# EAGLE library part ESP32DEVKITV1 (library ESP32-DEVKITV1)
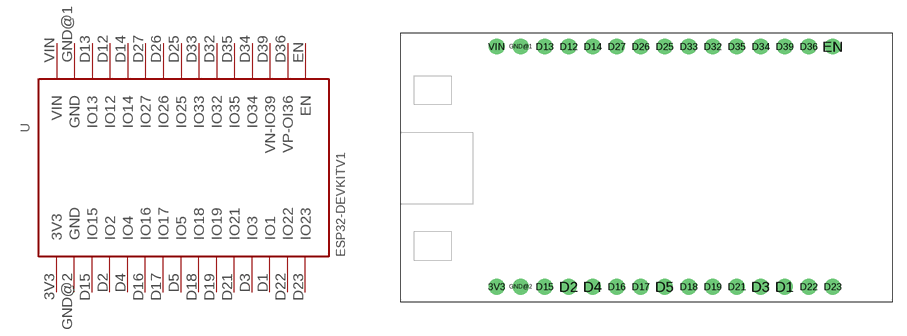
[diagram p0: symbol with the pads of ESP32-DEVKITV1; footprint ESP32-DEVKITV1]

Designator prefix -

## ESP32DEVKITV1  [ESP32-DEVKITV1]
3V3  3V3
D1  IO1
D2  IO2
D3  IO3
D4  IO4
D5  IO5
D12  IO12
D13  IO13
D14  IO14
D15  IO15
D16  IO16
D17  IO17
D18  IO18
D19  IO19
D21  IO21
D22  IO22
D23  IO23
D25  IO25
D26  IO26
D27  IO27
D32  IO32
D33  IO33
D34  IO34
D35  IO35
D36  VP-OI36
D39  VN-IO39
EN  EN
GND@1  GND
GND@2  GND
VIN  VIN

## Footprint ESP32-DEVKITV1 (pad centres in mm)
drill 1 pad 1.676: 3V3 -15.25,-12.54; D1 15.23,-12.54; D2 -7.63,-12.54; D3 12.69,-12.54; D4 -5.09,-12.54; D5 2.53,-12.54; D12 -7.63,12.865; D13 -10.17,12.865; D14 -5.09,12.865; D15 -10.17,-12.54; D16 -2.55,-12.54; D17 -0.01,-12.54; D18 5.07,-12.54; D19 7.61,-12.54; D21 10.15,-12.54; D22 17.77,-12.54; D23 20.31,-12.54; D25 2.53,12.865; D26 -0.01,12.865; D27 -2.55,12.865; D32 7.61,12.865; D33 5.07,12.865; D34 12.69,12.865; D35 10.15,12.865; D36 17.77,12.865; D39 15.23,12.865; EN 20.31,12.865; GND@1 -12.71,12.865; GND@2 -12.71,-12.54; VIN -15.25,12.865